# EAGLE library part 5077CR-16SMC2 (library user_conector)
USBコネクタ type-C 秋月電子通商通販コード[C-14356]
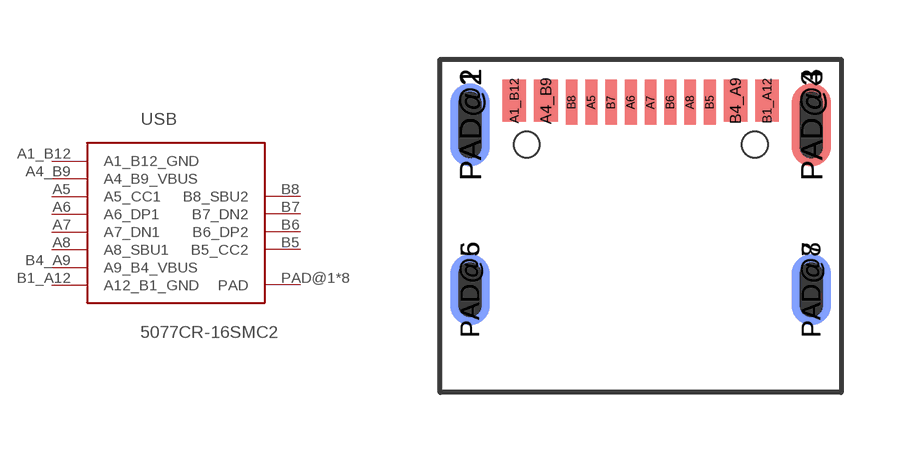
[diagram p6: symbol with the pads of USB_TYPE_C; footprint USB_TYPE_C]

Designator prefix USB

## 5077CR-16SMC2  [USB_TYPE_C]
A1_B12  A1_B12_GND
A4_B9  A4_B9_VBUS
A5  A5_CC1
A6  A6_DP1
A7  A7_DN1
A8  A8_SBU1
B1_A12  A12_B1_GND
B4_A9  A9_B4_VBUS
B5  B5_CC2
B6  B6_DP2
B7  B7_DN2
B8  B8_SBU2
PAD@1  PAD
PAD@2  PAD
PAD@3  PAD
PAD@4  PAD
PAD@5  PAD
PAD@6  PAD
PAD@7  PAD
PAD@8  PAD

## Footprint USB_TYPE_C (pad centres in mm)
smd 0.6 x 1.06: A1_B12 -3.198,2.758; A4_B9 -2.398,2.758; B1_A12 3.202,2.758; B4_A9 2.402,2.758
smd 0.3 x 1.14: A5 -1.248,2.718; A6 -0.248,2.718; A7 0.252,2.718; A8 1.252,2.718; B5 1.752,2.718; B6 0.752,2.718; B7 -0.748,2.718; B8 -1.748,2.718
smd 1 x 2.1 bottom: PAD@1 -4.318,2.148; PAD@3 4.322,2.148
smd 1 x 2.1: PAD@2 -4.318,2.148; PAD@4 4.322,2.148
smd 1 x 1.8 bottom: PAD@5 -4.318,-2.032; PAD@7 4.322,-2.032
smd 1 x 1.8: PAD@6 -4.318,-2.032; PAD@8 4.322,-2.032
hole 0.65 at -2.888,1.648
hole 0.65 at 2.892,1.648